# Altium footprint library WR-TBL_Spring Clamp_3.50mm.PcbLib: 32 footprints (part 1 of 2)
Each footprint in its own frame and in the unit in brackets; x right, y up, seen from the top. Pads: shape width x height; smd on the part's side, far side on the other; paste and mask are expansions set on the pad; w line width, h text height; cw(c..) or ccw(c..) is an arc to the next point about the centre after c.
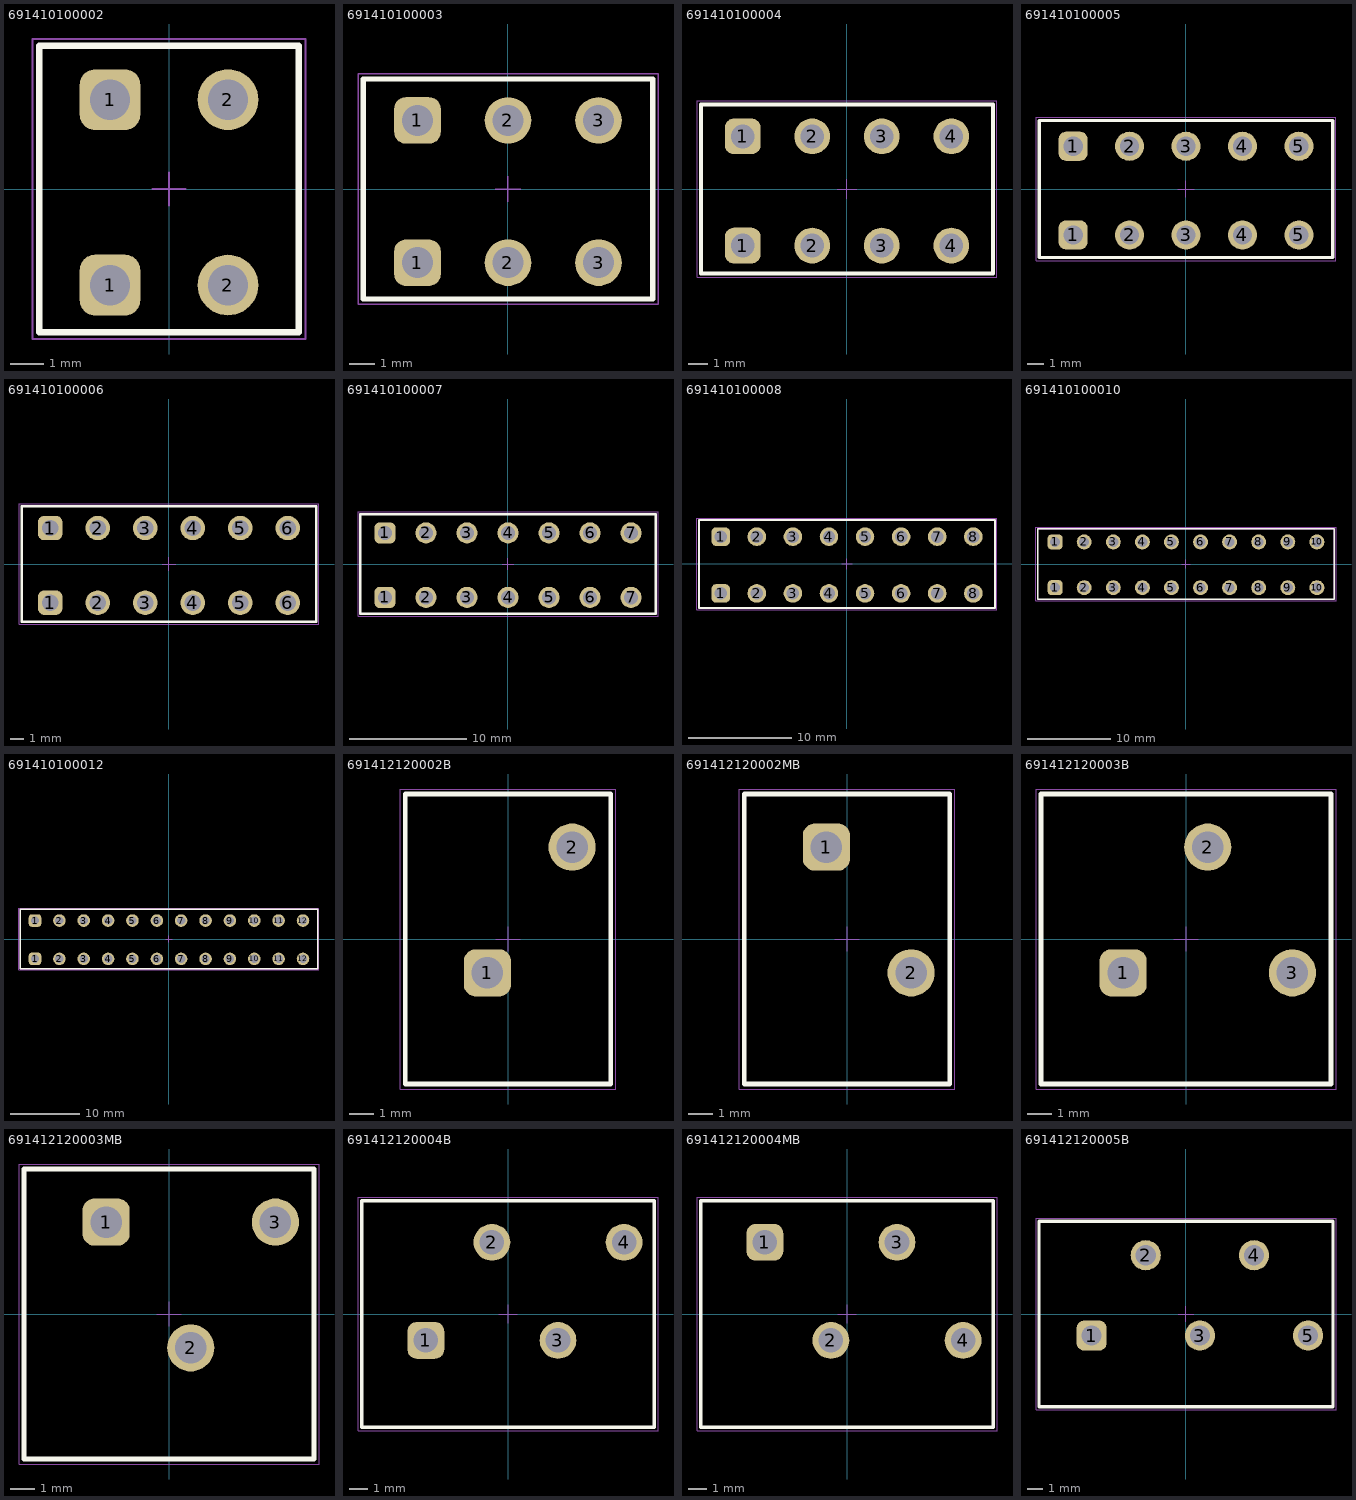
[diagram p0: the footprints below, top view; thin cyan lines are the x and y axes]

## 691410100002 [mm] "Terminal Block, Black, Screwless Vertical, pitch 3.5mm, 2p"
height 15.1
pads (4):
  rrect50% 1.8x1.8 hole 1.2: 1(-1.75,-2.85) 1(-1.75,2.65)
  round 1.8 hole 1.2: 2(1.75,-2.85) 2(1.75,2.65)
Top Overlay:
  lines w0.2: -3.85,-4.25 -3.85,4.25 3.85,4.25 3.85,-4.25 -3.85,-4.25
Top Designator:
  text ".Designator" at -7.498,-0.5 h1.5
Top Component Outline:
  lines w0.1: -3.85,-4.25 -3.85,4.25 3.85,4.25 3.85,-4.25 -3.85,-4.25
Top 3D Body:
  lines w0.1: -3.85,-4.25 -3.85,4.25 3.85,4.25 3.85,-4.25 -3.85,-4.25
Top Courtyard:
  lines w0.05: -4.05,-4.45 4.05,-4.45 4.05,4.45 -4.05,4.45 -4.05,-4.45
Top Component Center:
  lines w0.05: -0.5,0 0.5,0 ; 0,-0.5 0,0.5
3D body "691410100002.stp": height 15.2, standoff -3.4, extent -3.85,-4.25 3.85,4.25

## 691410100003 [mm] "Terminal Block, Black, Screwless Vertical, pitch 3.5mm, 3p"
height 15.1
pads (6):
  rrect50% 1.8x1.8 hole 1.2: 1(-3.5,-2.85) 1(-3.5,2.65)
  round 1.8 hole 1.2: 2(0,-2.85) 2(0,2.65) 3(3.5,-2.85) 3(3.5,2.65)
Top Overlay:
  lines w0.2: -5.6,-4.25 -5.6,4.25 5.6,4.25 5.6,-4.25 -5.6,-4.25
Top Designator:
  text ".Designator" at -7.498,-0.5 h1.5
Top Component Outline:
  lines w0.1: -5.6,-4.25 -5.6,4.25 5.6,4.25 5.6,-4.25 -5.6,-4.25
Top 3D Body:
  lines w0.1: -5.6,-4.25 -5.6,4.25 5.6,4.25 5.6,-4.25 -5.6,-4.25
Top Courtyard:
  lines w0.05: -5.8,-4.45 5.8,-4.45 5.8,4.45 -5.8,4.45 -5.8,-4.45
Top Component Center:
  lines w0.05: -0.5,0 0.5,0 ; 0,-0.5 0,0.5
3D body "691410100003.stp": height 15.2, standoff -3.4, extent -5.6,-4.25 5.6,4.25

## 691410100004 [mm] "Terminal Block, Black, Screwless Vertical, pitch 3.5mm, 4p"
height 15.1
pads (8):
  rrect50% 1.8x1.8 hole 1.2: 1(-5.25,-2.85) 1(-5.25,2.65)
  round 1.8 hole 1.2: 2(-1.75,-2.85) 2(-1.75,2.65) 3(1.75,-2.85) 3(1.75,2.65) 4(5.25,-2.85) 4(5.25,2.65)
Top Overlay:
  lines w0.2: -7.35,-4.25 -7.35,4.25 7.35,4.25 7.35,-4.25 -7.35,-4.25
Top Designator:
  text ".Designator" at -7.498,-0.5 h1.5
Top Component Outline:
  lines w0.1: -7.35,-4.25 -7.35,4.25 7.35,4.25 7.35,-4.25 -7.35,-4.25
Top 3D Body:
  lines w0.1: -7.35,-4.25 -7.35,4.25 7.35,4.25 7.35,-4.25 -7.35,-4.25
Top Courtyard:
  lines w0.05: -7.55,-4.45 7.55,-4.45 7.55,4.45 -7.55,4.45 -7.55,-4.45
Top Component Center:
  lines w0.05: -0.5,0 0.5,0 ; 0,-0.5 0,0.5
3D body "691410100004.stp": height 15.2, standoff -3.4, extent -7.35,-4.25 7.35,4.25

## 691410100005 [mm] "Terminal Block, Black, Screwless Vertical, pitch 3.5mm, 5p"
height 15.1
pads (10):
  rrect50% 1.8x1.8 hole 1.2: 1(-7,-2.85) 1(-7,2.65)
  round 1.8 hole 1.2: 2(-3.5,-2.85) 2(-3.5,2.65) 3(0,-2.85) 3(0,2.65) 4(3.5,-2.85) 4(3.5,2.65) 5(7,-2.85) 5(7,2.65)
Top Overlay:
  lines w0.2: -9.1,-4.25 -9.1,4.25 9.1,4.25 9.1,-4.25 -9.1,-4.25
Top Designator:
  text ".Designator" at -7.498,-0.5 h1.5
Top Component Outline:
  lines w0.1: -9.1,-4.25 -9.1,4.25 9.1,4.25 9.1,-4.25 -9.1,-4.25
Top 3D Body:
  lines w0.1: -9.1,-4.25 -9.1,4.25 9.1,4.25 9.1,-4.25 -9.1,-4.25
Top Courtyard:
  lines w0.05: -9.3,-4.45 9.3,-4.45 9.3,4.45 -9.3,4.45 -9.3,-4.45
Top Component Center:
  lines w0.05: -0.5,0 0.5,0 ; 0,-0.5 0,0.5
3D body "691410100005.stp": height 15.2, standoff -3.4, extent -9.1,-4.25 9.1,4.25

## 691410100006 [mm] "Terminal Block, Black, Screwless Vertical, pitch 3.5mm, 6p"
height 15.1
pads (12):
  rrect50% 1.8x1.8 hole 1.2: 1(-8.75,-2.85) 1(-8.75,2.65)
  round 1.8 hole 1.2: 2(-5.25,-2.85) 2(-5.25,2.65) 3(-1.75,-2.85) 3(-1.75,2.65) 4(1.75,-2.85) 4(1.75,2.65) 5(5.25,-2.85) 5(5.25,2.65) 6(8.75,-2.85) 6(8.75,2.65)
Top Overlay:
  lines w0.2: -10.85,-4.25 10.85,-4.25 10.85,4.25 -10.85,4.25 -10.85,-4.25
Top Designator:
  text ".Designator" at -7.498,-0.5 h1.5
Top Component Outline:
  lines w0.1: -10.85,-4.25 10.85,-4.25 10.85,4.25 -10.85,4.25 -10.85,-4.25
Top 3D Body:
  lines w0.1: -10.85,-4.25 10.85,-4.25 10.85,4.25 -10.85,4.25 -10.85,-4.25
Top Courtyard:
  lines w0.05: -11.05,-4.45 -11.05,4.45 11.05,4.45 11.05,-4.45 -11.05,-4.45
Top Component Center:
  lines w0.05: -0.5,0 0.5,0 ; 0,-0.5 0,0.5
3D body "691410100006.stp": height 15.2, standoff -3.4, extent -10.85,-4.25 10.85,4.25

## 691410100007 [mm] "Terminal Block, Black, Screwless Vertical, pitch 3.5mm, 7p"
height 15.1
pads (14):
  rrect50% 1.8x1.8 hole 1.2: 1(-10.5,-2.85) 1(-10.5,2.65)
  round 1.8 hole 1.2: 2(-7,-2.85) 2(-7,2.65) 3(-3.5,-2.85) 3(-3.5,2.65) 4(0,-2.85) 4(0,2.65) 5(3.5,-2.85) 5(3.5,2.65) 6(7,-2.85) 6(7,2.65) 7(10.5,-2.85) 7(10.5,2.65)
Top Overlay:
  lines w0.2: -12.6,-4.25 -12.6,4.25 12.6,4.25 12.6,-4.25 -12.6,-4.25
Top Designator:
  text ".Designator" at -7.498,-0.5 h1.5
Top Component Outline:
  lines w0.1: -12.6,-4.25 -12.6,4.25 12.6,4.25 12.6,-4.25 -12.6,-4.25
Top 3D Body:
  lines w0.1: -12.6,-4.25 -12.6,4.25 12.6,4.25 12.6,-4.25 -12.6,-4.25
Top Courtyard:
  lines w0.05: -12.8,-4.45 12.8,-4.45 12.8,4.45 -12.8,4.45 -12.8,-4.45
Top Component Center:
  lines w0.05: -0.5,0 0.5,0 ; 0,-0.5 0,0.5
3D body "691410100007.stp": height 15.2, standoff -3.4, extent -12.6,-4.25 12.6,4.25

## 691410100008 [mm] "Terminal Block, Black, Screwless Vertical, pitch 3.5mm, 8p"
height 15.1
pads (16):
  rrect50% 1.8x1.8 hole 1.2: 1(-12.25,-2.85) 1(-12.25,2.65)
  round 1.8 hole 1.2: 2(-8.75,-2.85) 2(-8.75,2.65) 3(-5.25,-2.85) 3(-5.25,2.65) 4(-1.75,-2.85) 4(-1.75,2.65) 5(1.75,-2.85) 5(1.75,2.65) 6(5.25,-2.85) 6(5.25,2.65) 7(8.75,-2.85) 7(8.75,2.65) 8(12.25,-2.85) 8(12.25,2.65)
Top Overlay:
  lines w0.2: -14.35,-4.25 -14.35,4.25 14.35,4.25 14.35,-4.25 -14.35,-4.25
Top Designator:
  text ".Designator" at -7.498,-0.5 h1.5
Top Component Outline:
  lines w0.1: -14.35,-4.25 -14.35,4.25 14.35,4.25 14.35,-4.25 -14.35,-4.25
Top 3D Body:
  lines w0.1: -14.35,-4.25 -14.35,4.25 14.35,4.25 14.35,-4.25 -14.35,-4.25
Top Courtyard:
  lines w0.05: -14.55,-4.45 14.55,-4.45 14.55,4.45 -14.55,4.45 -14.55,-4.45
Top Component Center:
  lines w0.05: -0.5,0 0.5,0 ; 0,-0.5 0,0.5
3D body "691410100008.stp": height 15.2, standoff -3.4, extent -14.35,-4.25 14.35,4.25

## 691410100010 [mm] "Terminal Block, Black, Screwless Vertical, pitch 3.5mm, 10p"
height 15.1
pads (20):
  rrect50% 1.8x1.8 hole 1.2: 1(-15.75,-2.85) 1(-15.75,2.65)
  round 1.8 hole 1.2: 2(-12.25,-2.85) 2(-12.25,2.65) 3(-8.75,-2.85) 3(-8.75,2.65) 4(-5.25,-2.85) 4(-5.25,2.65) 5(-1.75,-2.85) 5(-1.75,2.65) 6(1.75,-2.85) 6(1.75,2.65) 7(5.25,-2.85) 7(5.25,2.65) 8(8.75,-2.85) 8(8.75,2.65) 9(12.25,-2.85) 9(12.25,2.65) 10(15.75,-2.85) 10(15.75,2.65)
Top Overlay:
  lines w0.2: -17.85,-4.25 17.85,-4.25 17.85,4.25 -17.85,4.25 -17.85,-4.25
Top Designator:
  text ".Designator" at -7.498,-0.5 h1.5
Top Component Outline:
  lines w0.1: -17.85,-4.25 17.85,-4.25 17.85,4.25 -17.85,4.25 -17.85,-4.25
Top 3D Body:
  lines w0.1: -17.85,-4.25 17.85,-4.25 17.85,4.25 -17.85,4.25 -17.85,-4.25
Top Courtyard:
  lines w0.05: -18.05,-4.45 -18.05,4.45 18.05,4.45 18.05,-4.45 -18.05,-4.45
Top Component Center:
  lines w0.05: -0.5,0 0.5,0 ; 0,-0.5 0,0.5
3D body "691410100010.stp": height 15.2, standoff -3.4, extent -17.85,-4.25 17.85,4.25

## 691410100012 [mm] "Terminal Block, Black, Screwless Vertical, pitch 3.5mm, 12p"
height 15.1
pads (24):
  rrect50% 1.8x1.8 hole 1.2: 1(-19.25,-2.85) 1(-19.25,2.65)
  round 1.8 hole 1.2: 2(-15.75,-2.85) 2(-15.75,2.65) 3(-12.25,-2.85) 3(-12.25,2.65) 4(-8.75,-2.85) 4(-8.75,2.65) 5(-5.25,-2.85) 5(-5.25,2.65) 6(-1.75,-2.85) 6(-1.75,2.65) 7(1.75,-2.85) 7(1.75,2.65) 8(5.25,-2.85) 8(5.25,2.65) 9(8.75,-2.85) 9(8.75,2.65) 10(12.25,-2.85) 10(12.25,2.65) 11(15.75,-2.85) 11(15.75,2.65) 12(19.25,-2.85) 12(19.25,2.65)
Top Overlay:
  lines w0.2: -21.35,-4.25 21.35,-4.25 21.35,4.25 -21.35,4.25 -21.35,-4.25
Top Designator:
  text ".Designator" at -7.498,-0.5 h1.5
Top Component Outline:
  lines w0.1: -21.35,-4.25 21.35,-4.25 21.35,4.25 -21.35,4.25 -21.35,-4.25
Top 3D Body:
  lines w0.1: -21.35,-4.25 21.35,-4.25 21.35,4.25 -21.35,4.25 -21.35,-4.25
Top Courtyard:
  lines w0.05: -21.55,-4.45 -21.55,4.45 21.55,4.45 21.55,-4.45 -21.55,-4.45
Top Component Center:
  lines w0.05: -0.5,0 0.5,0 ; 0,-0.5 0,0.5
3D body "691410100012.stp": height 15.2, standoff -3.4, extent -21.35,-4.25 21.35,4.25

## 691412120002B [mm] "3,5mm - Spring clamp/Screw less - 45¡ã entry - 02p"
height 12.8
pads (2):
  rrect50% 1.95x1.95 hole 1.3: 1(-0.85,-1.4)
  round 1.95 hole 1.3: 2(2.65,3.8)
Top Overlay:
  lines w0.2: -4.25,-6 -4.25,6 4.25,6 4.25,-6 -4.25,-6
Top Designator:
  text ".Designator" at -7.498,-0.5 h1.5
Top Component Outline:
  lines w0.1: -4.25,-6 4.25,-6 4.25,6 -4.25,6 -4.25,-6
Top 3D Body:
  lines w0.1: -4.25,-6 -4.25,6 4.25,6 4.25,-6 -4.25,-6
Top Courtyard:
  lines w0.05: -4.45,-6.2 -4.45,6.2 4.45,6.2 4.45,-6.2 -4.45,-6.2
Top Component Center:
  lines w0.05: -0.5,0 0.5,0 ; 0,-0.5 0,0.5
3D body "691412120002B.stp": height 12.85, standoff -3.45, extent -4.25,-6 4.25,6

## 691412120002MB [mm] "3,5mm - Spring clamp/Screw less - 45¡ã entry - 02p"
height 11.5
pads (2):
  rrect50% 1.95x1.95 hole 1.3: 1(-0.85,3.8)
  round 1.95 hole 1.3: 2(2.65,-1.4)
Top Overlay:
  lines w0.2: -4.25,-6 4.25,-6 4.25,6 -4.25,6 -4.25,-6
Top Designator:
  text ".Designator" at -7.498,-0.5 h1.5
Top Component Outline:
  lines w0.1: -4.25,-6 -4.25,6 4.25,6 4.25,-6 -4.25,-6
Top 3D Body:
  lines w0.1: -4.25,-6 4.25,-6 4.25,6 -4.25,6 -4.25,-6
Top Courtyard:
  lines w0.05: -4.45,-6.2 -4.45,6.2 4.45,6.2 4.45,-6.2 -4.45,-6.2
Top Component Center:
  lines w0.05: -0.5,0 0.5,0 ; 0,-0.5 0,0.5
3D body "691412120002MB.stp": height 12.85, standoff -3.45, extent -4.25,-6 4.25,6

## 691412120003B [mm] "3,5mm - Spring clamp/Screw less - 45¡ã entry - 03p"
height 12.8
pads (3):
  rrect50% 1.95x1.95 hole 1.3: 1(-2.6,-1.4)
  round 1.95 hole 1.3: 2(0.9,3.8) 3(4.4,-1.4)
Top Overlay:
  lines w0.2: -6,-6 6,-6 6,6 -6,6 -6,-6
Top Designator:
  text ".Designator" at -7.498,-0.5 h1.5
Top Component Outline:
  lines w0.1: -6,-6 -6,6 6,6 6,-6 -6,-6
Top 3D Body:
  lines w0.1: -6,-6 6,-6 6,6 -6,6 -6,-6
Top Courtyard:
  lines w0.05: -6.2,-6.2 6.2,-6.2 6.2,6.2 -6.2,6.2 -6.2,-6.2
Top Component Center:
  lines w0.05: -0.5,0 0.5,0 ; 0,-0.5 0,0.5
3D body "691412120003B.stp": height 12.85, standoff -3.45, extent -6,-6 6,6

## 691412120003MB [mm] "3,5mm - Spring clamp/Screw less - 45¡ã entry - 03p"
height 11.5
pads (3):
  rrect50% 1.95x1.95 hole 1.3: 1(-2.6,3.8)
  round 1.95 hole 1.3: 2(0.9,-1.4) 3(4.4,3.8)
Top Overlay:
  lines w0.2: -6,-6 -6,6 6,6 6,-6 -6,-6
Top Designator:
  text ".Designator" at -7.498,-0.5 h1.5
Top Component Outline:
  lines w0.1: -6,-6 6,-6 6,6 -6,6 -6,-6
Top 3D Body:
  lines w0.1: -6,-6 -6,6 6,6 6,-6 -6,-6
Top Courtyard:
  lines w0.05: -6.2,-6.2 6.2,-6.2 6.2,6.2 -6.2,6.2 -6.2,-6.2
Top Component Center:
  lines w0.05: -0.5,0 0.5,0 ; 0,-0.5 0,0.5
3D body "691412120003MB.stp": height 12.85, standoff -3.45, extent -6,-6 6,6

## 691412120004B [mm] "3,5mm - Spring clamp/Screw less - 45¡ã entry - 04p"
height 12.8
pads (4):
  rrect50% 1.95x1.95 hole 1.3: 1(-4.35,-1.4)
  round 1.95 hole 1.3: 2(-0.85,3.8) 3(2.65,-1.4) 4(6.15,3.8)
Top Overlay:
  lines w0.2: -7.75,-6 7.75,-6 7.75,6 -7.75,6 -7.75,-6
Top Designator:
  text ".Designator" at -7.498,-0.5 h1.5
Top Component Outline:
  lines w0.1: -7.75,-6 -7.75,6 7.75,6 7.75,-6 -7.75,-6
Top 3D Body:
  lines w0.1: -7.75,-6 7.75,-6 7.75,6 -7.75,6 -7.75,-6
Top Courtyard:
  lines w0.05: -7.95,-6.2 7.95,-6.2 7.95,6.2 -7.95,6.2 -7.95,-6.2
Top Component Center:
  lines w0.05: -0.5,0 0.5,0 ; 0,-0.5 0,0.5
3D body "691412120004B.stp": height 12.85, standoff -3.45, extent -7.75,-6 7.75,6

## 691412120004MB [mm] "3,5mm - Spring clamp/Screw less - 45¡ã entry - 04p"
height 11.5
pads (4):
  rrect50% 1.95x1.95 hole 1.3: 1(-4.35,3.8)
  round 1.95 hole 1.3: 2(-0.85,-1.4) 3(2.65,3.8) 4(6.15,-1.4)
Top Overlay:
  lines w0.2: -7.75,-6 -7.75,6 7.75,6 7.75,-6 -7.75,-6
Top Designator:
  text ".Designator" at -7.498,-0.5 h1.5
Top Component Outline:
  lines w0.1: -7.75,-6 7.75,-6 7.75,6 -7.75,6 -7.75,-6
Top 3D Body:
  lines w0.1: -7.75,-6 -7.75,6 7.75,6 7.75,-6 -7.75,-6
Top Courtyard:
  lines w0.05: -7.95,-6.2 7.95,-6.2 7.95,6.2 -7.95,6.2 -7.95,-6.2
Top Component Center:
  lines w0.05: -0.5,0 0.5,0 ; 0,-0.5 0,0.5
3D body "691412120004MB.stp": height 12.85, standoff -3.45, extent -7.75,-6 7.75,6

## 691412120005B [mm] "3,5mm - Spring clamp/Screw less - 45¡ã entry - 05p"
height 12.8
pads (5):
  rrect50% 1.95x1.95 hole 1.3: 1(-6.1,-1.4)
  round 1.95 hole 1.3: 2(-2.6,3.8) 3(0.9,-1.4) 4(4.4,3.8) 5(7.9,-1.4)
Top Overlay:
  lines w0.2: -9.5,-6 -9.5,6 9.5,6 9.5,-6 -9.5,-6
Top Designator:
  text ".Designator" at -7.498,-0.5 h1.5
Top Component Outline:
  lines w0.1: -9.5,-6 9.5,-6 9.5,6 -9.5,6 -9.5,-6
Top 3D Body:
  lines w0.1: -9.5,-6 -9.5,6 9.5,6 9.5,-6 -9.5,-6
Top Courtyard:
  lines w0.05: -9.7,-6.2 -9.7,6.2 9.7,6.2 9.7,-6.2 -9.7,-6.2
Top Component Center:
  lines w0.05: -0.5,0 0.5,0 ; 0,-0.5 0,0.5
3D body "691412120005B.stp": height 12.85, standoff -3.45, extent -9.5,-6 9.5,6